# Altium schematic symbol library NRF52832_Ball.SchLib: 55 symbols
Pins are listed as number, name and electrical type; pins without a type are passive.

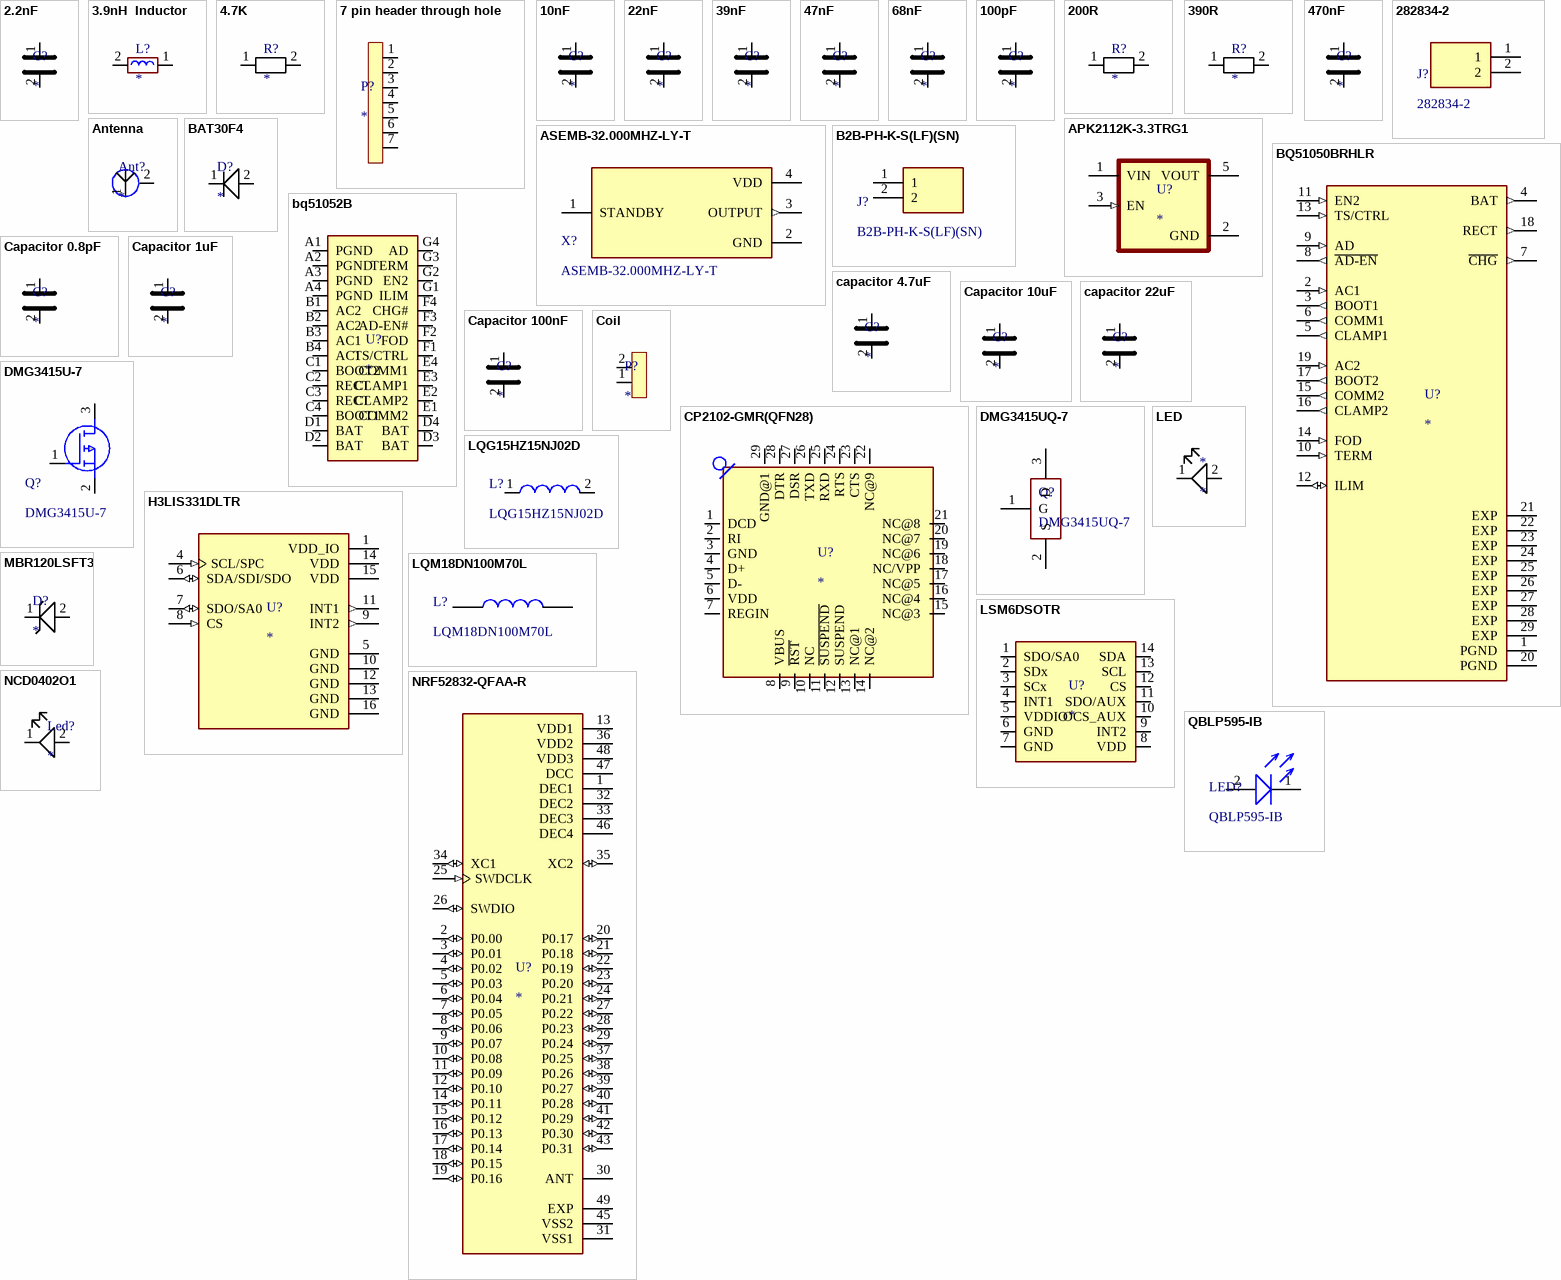
[diagram p0: symbols 2.2nF to QBLP595-IB]

## 2.2nF
designator C?
16V 2.2nF X7R ±10% 0201  Multilayer Ceramic Capacitors MLCC - SMD/SMT ROHS; MF: PSA(Prosperity Dielectrics); MP: FN03X222K160PLG; JLCPCBPart#: C565529; Package: 0201
footprint C0201
pins: 1, 2

## 3.9nH  Inductor
designator L?
MF: TDK; MP: MLG0603S3N9ST000; Packag: L0201; JLCPCBPart#: C136219
footprint C0201
pins: 1, 2

## 4.7K
designator R?
50mW Thick Film Resistors ±5% ±200ppm/℃ 4.7kΩ 0201  Chip Resistor - Surface Mount ROHS; MF: Vishay Intertech; MP: CRCW02014K70JNED; JLCPCBPart#: C2073629; Package: 0201
footprint R0201
pins: 1, 2

## 7 pin header through hole
designator P?
footprint header 7 pin
pins: 1, 2, 3, 4, 5, 6, 7

## 10nF
designator C?
50V 10nF X5R ±10% 0402  Multilayer Ceramic Capacitors MLCC - SMD/SMT ROHS; MF: Darfon Elec; MP: C1005X5R103KGTS; JLCPCBPart#: C147682; Package: 0402
footprint C0402
pins: 1, 2

## 22nF
designator C?
25V 22nF X7R ±10% 0402  Multilayer Ceramic Capacitors MLCC - SMD/SMT ROHS; MF: EYANG(Shenzhen Eyang Tech Development); MP: C0402X7R223K250NTB; JLCPCBPart#: C183767; Package: 0402
footprint C0201
pins: 1, 2

## 39nF
designator C?
16V 39nF X7R ±10% 0402  Multilayer Ceramic Capacitors MLCC - SMD/SMT ROHS; MF: Samsung Electro-Mechanics; MP: CL05B393K05NNNC; JLCPCBPart#: C18048; Package: 0402
footprint C0402
pins: 1, 2

## 47nF
designator C?
25V 47nF X5R 0201  Multilayer Ceramic Capacitors MLCC - SMD/SMT ROHS; MF: CCTC; MP: TCC0201X5R473K250ZT; JLCPCBPart#: C5142564; Package: 0201
footprint C0201
pins: 1, 2

## 68nF
designator C?
16V 68nF Y5V -20%~+80% 0402  Multilayer Ceramic Capacitors MLCC - SMD/SMT ROHS; MF: Walsin Tech Corp; MP: 0402F683Z160CT; JLCPCBPart#: C388115; Package: 0402
footprint C0402
pins: 1, 2

## 100pF
designator C?
50V 100pF C0G ±5% 0603  Multilayer Ceramic Capacitors MLCC - SMD/SMT ROHS; MF: FOJAN; MP: FCC0603N101J500CT; JLCPCBPart#: C5137494; Package: 0603
footprint C0603
pins: 1, 2

## 200R
designator R?
62.5mW Thick Film Resistors ±1% ±200ppm/℃ 200Ω 0402  Chip Resistor - Surface Mount ROHS; MF: FH (Guangdong Fenghua Advanced Tech); MP: RHC-02W2000FT; Packag: 0402; JLCPCBPart#: C2991514
footprint R0201
pins: 1, 2

## 390R
designator R?
62.5mW Thin Film Resistor ±25ppm/℃ ±1% 390Ω 0402 Chip Resistor -; MF: Viking Tech; MP: ARG02FTC3900; Packag: 0402; JLCPCBPart#: C284545
footprint R0201
pins: 1, 2

## 470nF
designator C?
50V 100pF C0G ±5% 0603  Multilayer Ceramic Capacitors MLCC - SMD/SMT ROHS; MF: IHHEC(HOLY STONE ENTERPRISE CO., LTD); MP: C0402B474K010T; JLCPCBPart#: C188346; Package: 0402
footprint C0402
pins: 1, 2

## 282834-2
designator J?
TERM BLK 2P SIDE ENT 2.54MM PCB
footprint 282834-2
pins: 1, 2

## Antenna
designator Ant?  (net tie)
footprint Inverted_F_Antenna
pins: 1, 2

## APK2112K-3.3TRG1
designator U?
65dB@(100Hz,1kHz) 600mA Fixed 3.3V~3.3V Positive 6V SOT-23-5 Linear Voltage Regulators (LDO) ROHS; MF: Diodes Incorporated; MP: AP2112K-3.3TRG1; JLCPCBPart#: C51118; Package: SOT-25-5
footprint SOT-25-5
pins: 1 VIN (power), 2 GND, 3 EN (in), 5 VOUT (power)

## ASEMB-32.000MHZ-LY-T
designator X?
MEMS OSC XO 32.0000MHZ CMOS SMD
footprint ASEMB-32.000MHZ-LY-T
pins: 1 STANDBY, 2 GND (power), 3 OUTPUT (out), 4 VDD (power)

## B2B-PH-K-S(LF)(SN)
designator J?
CONN HEADER VERT 2POS 2MM
footprint B2B-PH-K-S(LF)(SN)
pins: 1, 2

## BAT30F4
designator D?
30V 625mV@300mA 300mA 0201 Schottky Barrier Diodes (SBD) ROHS; MP: BAT30F4; MF: STMicroelectronics; JLCPCBPart#: C314018; Package: 0201
pins: 1, 2

## BQ51050BRHLR
designator U?
QFN-20-EP(3.7x4.7) Battery Management ICs ROHS; MF: Texas Instruments; MP: BQ51050BRHLR; JLCPCBPart#: C133307; Packag: QFN-20-EP(3.7x4.7); ComponentLink1Description: New link; ComponentLink1URL: https://jlcpcb.com/partdetail/TexasInstruments-BQ51050BRHLR/C133307
footprint QFN-20-EP(3.7x4.7)
pins: 1 PGND, 2 AC1 (in), 3 BOOT1 (out), 4 BAT (out), 5 CLAMP1 (out), 6 COMM1 (out), 7 ~{CHG} (out), 8 ~{AD-EN} (out), 9 AD (in), 10 TERM (in), 11 EN2 (in), 12 ILIM (io), 13 TS/CTRL (in), 14 FOD (in), 15 COMM2 (out), 16 CLAMP2 (out), 17 BOOT2 (out), 18 RECT (out), 19 AC2 (in), 20 PGND, 21 EXP, 22 EXP, 23 EXP, 24 EXP, 25 EXP, 26 EXP, 27 EXP, 28 EXP, 29 EXP

## bq51052B
designator U?
pins: A1 PGND, A2 PGND, A3 PGND, A4 PGND, B1 AC2, B2 AC2, B3 AC1, B4 AC1, C1 BOOT2, C2 RECT, C3 RECT, C4 BOOT1, D1 BAT, D2 BAT, D3 BAT, D4 BAT, E1 COMM2, E2 CLAMP2, E3 CLAMP1, E4 COMM1, F1 TS/CTRL, F2 FOD, F3 AD-EN#, F4 CHG#, G1 ILIM, G2 EN2, G3 TERM, G4 AD

## Capacitor 0.8pF
designator C?
MF: YAGEO(国巨); MP: CC0201CRNPO9BNR80; JLCPCBPart#: C327151; package: C0201
footprint C0201
pins: 1, 2

## Capacitor 1uF
designator C?
MF: muRata(村田); MP: GRM155Z71A105KE01D; Packag: C0402; JLCPCBPart#: C528974
footprint C0402
pins: 1, 2

## capacitor 4.7uF
designator C?
MF: SAMSUNG(三星); MP: CL05A475MP5NRNC; JLCPCBPart#: C23733; Package: C0402
footprint C0402
pins: 1, 2

## Capacitor 10uF
designator C?
MF: SAMSUNG(三星); MP: CL05A106MQ5NUNC; JLCPCBPart#: C15525; Package: C0402
footprint C0402
pins: 1, 2

## capacitor 22uF
designator C?
MF: muRata(村田); MP: GRM188R61A226ME15D; JLCPCBPart#: C84419; Package: C0603
footprint C0603
pins: 1, 2

## Capacitor 100nF
designator C?
MF: muRata(村田); MP: GRM033Z71A104KE14D; JLCPCBPart#: C161494; Package: C0201
footprint C0201
pins: 1, 2

## Coil
designator P?
pins: 1, 2

## CP2102-GMR(QFN28)
designator U?
USB Bridge, USB to UART USB 2.0 UART Interface 28-QFN (5x5); MP: CP2102-GMR; MF: Silicon; Package: VFQFN-28 Vishay Siliconix; JLCPCB Part #: C2687116
footprint QFN28G
pins: 1 DCD (io), 2 RI (io), 3 GND (io), 4 D+ (io), 5 D- (io), 6 VDD (io), 7 REGIN (io), 8 VBUS (io), 9 ~{RST} (io), 10 NC (io), 11 ~{SUSPEND} (io), 12 SUSPEND (io), 13 NC@1 (io), 14 NC@2 (io), 15 NC@3 (io), 16 NC@4 (io), 17 NC@5 (io), 18 NC/VPP (io), 19 NC@6 (io), 20 NC@7 (io), 21 NC@8 (io), 22 NC@9 (io), 23 CTS (io), 24 RTS (io), 25 RXD (io), 26 TXD (io), 27 DSR (io), 28 DTR (io), 29 GND@1 (io)

## DMG3415U-7
designator Q?
MOSFET P-CH 20V 4A SOT23-3
footprint DMG3415U-7
pins: 1 G, 2 S, 3 D

## DMG3415UQ-7
designator Q?
P-Channel 20 V 4A (Ta) 900mW (Ta) Surface Mount SOT-23-3; MF: Diodes Incorporated; MP: DMG3415UQ-7; JLCPCBPart#: C459537
footprint SOT-23
pins: 1 G, 2 S, 3 D

## H3LIS331DLTR
designator U?
TFLGA-16(3x3) Attitude Sensor/Gyroscope ROHS; MF: STMicroelectronics; MP: H3LIS331DLTR; JLCPCBPart#: C2655074; Package: TFLGA-16(3x3)
footprint TFLGA-16(3x3)
pins: 1 VDD_IO (power), 4 SCL/SPC (in), 5 GND, 6 SDA/SDI/SDO (io), 7 SDO/SA0 (io), 8 CS (in), 9 INT2 (out), 10 GND, 11 INT1 (out), 12 GND, 13 GND, 14 VDD (power), 15 VDD (power), 16 GND

## LED
designator *
MF: *; MP: *; JLCPCBPart#: C130722; package: LED0402-RD
pins: 1, 2

## LQG15HZ15NJ02D
designator L?
FIXED IND 15NH 450MA 320MOHM SMD
footprint LQG15HZ15NJ02D
pins: 1, 2

## LQM18DN100M70L
designator L?
FIXED IND 10UH 300MA
footprint LQM18DN100M70L
pins: 1, 2

## LSM6DSOTR
designator U?
LGA-14(2.5x3) Attitude Sensor/Gyroscope ROHS; MF: STMicroelectronics; MP: LSM6DSOTR; JLCPCBPart#: C2655100; packag: LGA-14(2.5x3)
footprint LGA-14(2.5x3)
pins: 1 SDO/SA0, 2 SDx, 3 SCx, 4 INT1, 5 VDDIO, 6 GND, 7 GND, 8 VDD, 9 INT2, 10 OCS_AUX, 11 SDO/AUX, 12 CS, 13 SCL, 14 SDA

## MBR120LSFT3
designator D?
20V 1A 650mV@3A SOD-123FL Schottky Barrier Diodes (SBD) ROHS; MP: MBR12LSFT3G; MF: onsemi; JLCPCBPART#: C896755; Package: SOD-123FL
footprint SOD-123FL (Diode Schottky 20 V 1A Surface Mount)
pins: 1, 2

## NCD0402O1
designator Led?
MF: 国星光电; MP: NCD0402O1; Packag: LED0402-R-RD; JLCPCBPart#: C130720
pins: 1, 2

## NRF52832-QFAA-R
designator U?
2Mbps 2.4GHz Bluetooth 2.4GHz I2C,SPI,UART QFN-48-EP(6x6) RF Transceiver ICs ROHS; MF: Nordic Semicon; MP: NRF52832-QFAA-R; JLCPCBPart#: C77540; Packag: QFN-48-EP(6x6)
footprint VFQFN-48
pins: 1 DEC1, 2 P0.00 (io), 3 P0.01 (io), 4 P0.02 (io), 5 P0.03 (io), 6 P0.04 (io), 7 P0.05 (io), 8 P0.06 (io), 9 P0.07 (io), 10 P0.08 (io), 11 P0.09 (io), 12 P0.10 (io), 13 VDD1, 14 P0.11 (io), 15 P0.12 (io), 16 P0.13 (io), 17 P0.14 (io), 18 P0.15 (io), 19 P0.16 (io), 20 P0.17 (io), 21 P0.18 (io), 22 P0.19 (io), 23 P0.20 (io), 24 P0.21 (io), 25 SWDCLK (in), 26 SWDIO (io), 27 P0.22 (io), 28 P0.23 (io), 29 P0.24 (io), 30 ANT, 31 VSS1, 32 DEC2, 33 DEC3, 34 XC1 (io), 35 XC2 (io), 36 VDD2, 37 P0.25 (io), 38 P0.26 (io), 39 P0.27 (io), 40 P0.28 (io), 41 P0.29 (io), 42 P0.30 (io), 43 P0.31 (io), 45 VSS2, 46 DEC4, 47 DCC, 48 VDD3, 49 EXP

## QBLP595-IB
designator LED?
LED BLUE CLEAR 0402 SMD
footprint QBLP595-IB
pins: 1 CATHODE (-), 2 ANODE (+)

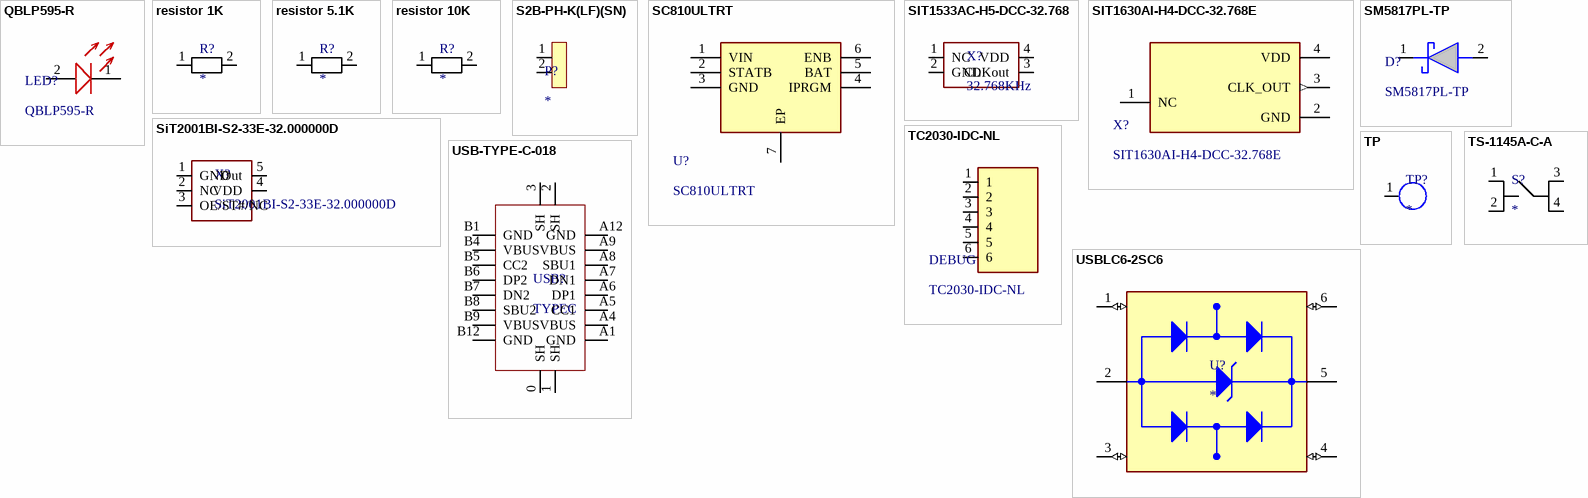
[diagram p1: symbols QBLP595-R to USBLC6-2SC6]

## QBLP595-R
designator LED?
LED RED CLEAR 0402 SMD
footprint QBLP595-R
pins: 1 CATHODE (-), 2 ANODE (+)

## resistor 1K
designator R?
MF: YAGEO(国巨); MP: RC0201JR-071KL; JLCPCBPart#: C131396; Package: R0201
footprint R0201
pins: 1, 2

## resistor 5.1K
designator R?
MF: UNI-ROYAL(厚声); MP: 0201WMJ0512TEE; JLCPCBPart#: C473460; Package: R0201
footprint R0201
pins: 1, 2

## resistor 10K
designator R?
MF: YAGEO(国巨); MP: RC0201FR-0710KL; JLCPCBPart#: C106225; Package: R0201
footprint R0201
pins: 1, 2

## S2B-PH-K(LF)(SN)
designator P?
1x2P PH 1 2mm Male pin 2 -25℃~+85℃ 2A Surface Mount SMD,P=2mm  Wire To Board / Wire To Wire Connector ROHS; MF: JST Sales America; MP: S2B-PH-SM4-TB(LF)(SN); JLCPCB: C295747; Package: SMD,P=2mm
footprint JST_Connector
pins: 1, 2

## SC810ULTRT
designator U?
IC BATT CHG LI-ION 1CELL 6MLP
footprint SC810ULTRT
pins: 1 VIN, 2 STATB, 3 GND, 4 IPRGM, 5 BAT, 6 ENB, 7 EP

## SIT1533AC-H5-DCC-32.768
designator X?, comment 32.768KHz
±75ppm LVCMOS 1.2V~3.63V 32.768kHz SMD2012-4P Pre-programmed Oscillators ROHS; MP: SiT1533AC-H5-DCC-32.768; MF: SiTime; JLCPCBPart#: C377830; Packag: SMD2012-4P
footprint SMD2012-4P (32.768KHZ)
pins: 1 NC, 2 GND, 3 CLKout, 4 VDD

## SIT1630AI-H4-DCC-32.768E
designator X?
MEMS OSC XO 32.7680KHZ LVCMOS
footprint SIT1630AI-H4-DCC-32.768E
pins: 1 NC, 2 GND (power), 3 CLK_OUT (out), 4 VDD (power)

## SiT2001BI-S2-33E-32.000000D
designator X?
±25ppm LVCMOS,HCMOS 3.3V 32MHz SOT-23-5 Pre-programmed Oscillators ROHS; MF: SiTime; MP: SiT2001BI-S2-33E-32.000000D; JLCPCBPart#: C270131; Package: SOT-23-5
footprint SOT-25-5
pins: 1 GND, 2 NC, 3 OE/ST#/NC, 4 VDD, 5 Out

## SM5817PL-TP
designator D?
DIODE SCHOTTKY 20V 1A SOD123FL
footprint SM5817PL-TP
pins: 1 K, 2 A

## TC2030-IDC-NL
designator DEBUG
Tag Connector 6POS
footprint TC2030-IDC-NL
pins: 1, 2, 3, 4, 5, 6

## TP
designator TP?
footprint TP
pins: 1

## TS-1145A-C-A
designator S?
No NO 50mA 100000 Times 260gf 12V Brick nogging SPST SMD Tactile Switches ROHS; MP: *; MF: *; JLCPCBPart#: *; Packag: *
footprint SMD button
pins: 1, 2, 3, 4

## USB-TYPE-C-018
designator USB?, comment TYPEC
Manufacturer: DEALON    Mfr.No: USB-TYPE-C-018   USB-TYPE-C Female SMD; Parameter 3: LCSC: C2927038; Parameter 1: Mfr.No: USB-TYPE-C-018; Parameter 2: Manufacturer: DEALON
footprint USB-TYPE-C-Female-SMD
pins: 0 SH, 1 SH, 2 SH, 3 SH, A1 GND, A4 VBUS, A5 CC1, A6 DP1, A7 DN1, A8 SBU1, A9 VBUS, A12 GND, B1 GND, B4 VBUS, B5 CC2, B6 DP2, B7 DN2, B8 SBU2, B9 VBUS, B12 GND

## USBLC6-2SC6
designator U?
17V Clamp 5A (8/20Âµs) Ipp Tvs Diode Surface Mount SOT-23-6; MP: USBLC6-2SC6; MF: STMicroelectronics; Package: SOT-23-6 STMicroelectronics
footprint SOT-23-6 (SMD 6 pin IC)
pins: 1 I/O1_IN (io), 2 GND (power), 3 I/O2_IN (io), 4 I/O2_OUT (io), 5 VBUS (power), 6 I/O1_OUT (io)